# Altium schematic symbol library EMI_SCH_lib.SchLib: 8 symbols
Pins are listed as number, name and electrical type; pins without a type are passive.

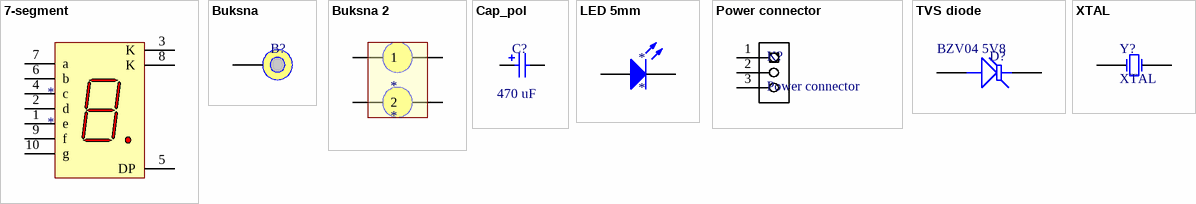
[diagram p0: symbols 7-segment to XTAL]

## 7-segment
designator *
footprint 7-segment disp
pins: 1 e "Anode", 2 d "Anode", 3 K "Anode", 4 c "Anode", 5 DP "Anode", 6 b, 7 a "Anode", 8 K "Anode", 9 f, 10 g "Cathode"

## Buksna
designator B?, comment Buksna 4mm  (value not drawn)
footprint Buksna 4mm (Buksna za bananu od 4mm)
pins: 1, 2 hidden

## Buksna 2
designator *
footprint H 2x1
pins: 1, 1, 2, 2

## Cap_pol
designator C?  value 470 uF  (hidden comment: Cap_pol)
footprint Cap Pol 1000 uF
pins: 1, 2

## LED 5mm
designator *
pins: 1 A, 2 K

## Power connector
designator K?
footprint Header for power
pins: 1, 2, 3

## TVS diode
designator D?  Part name: BZV04 5V8  (hidden comment: TVS diode)
footprint TVS DO - 7
pins: 1 A, 2 K

## XTAL
designator Y?
footprint PCBComponent_1
pins: 1 OSC1, 2 OSC2